# Altium schematic symbol library FUSE.SchLib: 10 symbols
Pins are listed as number, name and electrical type; pins without a type are passive.

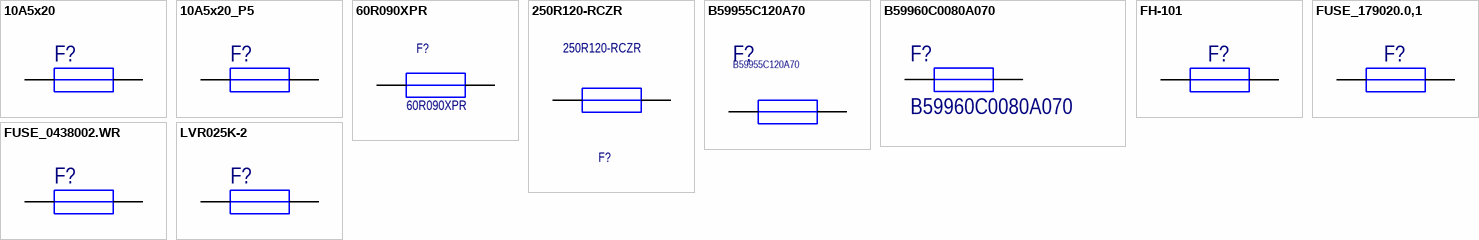
[diagram p0: symbols 10A5x20 to LVR025K-2]

## 10A5x20
designator F?  (value not drawn)
footprint 5x20
pins: 1, 2

## 10A5x20_P5
designator F?  (value not drawn)
footprint 5x20-P5
pins: 1, 2

## 60R090XPR
designator F?
PTC RESETTABLE 60V 900MA RADIAL; Manufacturer: Littelfuse; Max Current Rating: 40A; Resistance: 470mR; Power Dissipation: 990mW; Trip Current: 1.8A; Time to Trip: 7.2s; Approvals: cULus,TUV; Description: PTC RESETBL 60V/250V .120A RAD; Supplier 1: Digi-Key; Supplier Part Number 1: F1992CT-ND; RoHS: Yes; Category: PTC Resettable Fuses; Stock 1: 2008; Pricing 1: 1=0,55000, 5=0,53000, 10=0,51400, 50=0,43240, 100=0,35900, 250=0,32640, 500=0,27744, 1000=0,24480 (USD); Case/Package: Radial; Min Operating Temperature: -40°C; Max Operating Temperature: 85°C; Current Rating: 40A; Package Quantity: 2000; Packaging: Tape and Reel; Termination: Radial; Max Voltage Rating (DC): 60V; Voltage Rating (DC): 60V; Working Voltage: 60V; Hold Current: 900mA; Operating Supply Voltage: 60V; Series: POLY-FUSE®, 60R; Width: 11.7mm; Height: 15.8mm; Lead Pitch: 5.1mm; Thickness: 3.05mm; Size: 3.1mm; REACH SVHC: Unknown; Lead Free: Lead Free; RoHS Compliant: Yes; ComponentLink1URL: https://datasheet.ciiva.com/14119/iewickmann-resettables-rld60-en-14119704.pdf?src-supplier=Distrelec; ComponentLink1Description: https://datasheet.ciiva.com/14119/iewickmann-resettables-rld60-en-14119704.pdf?src-supplier=Distrelec; ComponentLink2URL: https://datasheet.ciiva.com/325/littelfuse-60r-325865.pdf?src-supplier=Digi-Key; ComponentLink2Description: https://datasheet.ciiva.com/325/littelfuse-60r-325865.pdf?src-supplier=Digi-Key; ComponentLink3URL: https://datasheet.ciiva.com/16409/littelfuse-60r-16409086.pdf?src-supplier=Future+Electronics; ComponentLink3Description: https://datasheet.ciiva.com/16409/littelfuse-60r-16409086.pdf?src-supplier=Future+Electronics; ComponentLink4URL: https://datasheet.ciiva.com/325/littelfuse-60r-325864.pdf?src-supplier=Digi-Key; ComponentLink4Description: https://datasheet.ciiva.com/325/littelfuse-60r-325864.pdf?src-supplier=Digi-Key; ComponentLink5URL: https://datasheet.ciiva.com/46430/692303-46430110.pdf?src-supplier=Element14; ComponentLink5Description: https://datasheet.ciiva.com/46430/692303-46430110.pdf?src-supplier=Element14; Manufacturer Part Number: 60R090XPR; Supplier 2: Digi-Key; Supplier Part Number 2: 250R120-RCZRCT-ND; Stock: 1601; Pricing: 1=0,88000, 5=0,84800, 10=0,79300, 50=0,65640, 100=0,54700, 250=0,53332, 500=0,45128 (USD); ComponentLink6URL: https://datasheet.ciiva.com/326/littelfuse-ptc-250r-326823.pdf?src-supplier=Digi-Key; ComponentLink6Description: https://datasheet.ciiva.com/326/littelfuse-ptc-250r-326823.pdf?src-supplier=Digi-Key; ComponentLink7URL: https://datasheet.ciiva.com/326/littelfuse-ptc-250r-326822.pdf?src-supplier=Digi-Key; ComponentLink7Description: https://datasheet.ciiva.com/326/littelfuse-ptc-250r-326822.pdf?src-supplier=Digi-Key
footprint FUSER_LITTELFUSE_60R090XPR (Radial, Disc 11.20mm x 3.10mm)
pins: 1, 2

## 250R120-RCZR
designator F?
PTC RESETBL 60V/250V .120A RAD; Manufacturer: Littelfuse; Max Current Rating: 3A; Resistance: 14R; Hold Current: 120mA; Trip Current: 240mA; Time to Trip: 0.85s; Supplier 1: Digi-Key; Supplier Part Number 1: 250R120-RCZRCT-ND; Manufacturer Part Number: 250R120-RCZR; RoHS: Yes; Category: PTC Resettable Fuses; Stock: 1601; Pricing: 1=0,88000, 5=0,84800, 10=0,79300, 50=0,65640, 100=0,54700, 250=0,53332, 500=0,45128 (USD); Case/Package: Radial; Min Operating Temperature: -40°C; Max Operating Temperature: 85°C; Package Quantity: 1200; Packaging: Tape and Reel; Termination: Radial; Series: POLY-FUSE®, 250R; Lead Free: Lead Free; RoHS Compliant: Yes; ComponentLink1URL: https://datasheet.ciiva.com/326/littelfuse-ptc-250r-326823.pdf?src-supplier=Digi-Key; ComponentLink1Description: https://datasheet.ciiva.com/326/littelfuse-ptc-250r-326823.pdf?src-supplier=Digi-Key; ComponentLink2URL: https://datasheet.ciiva.com/326/littelfuse-ptc-250r-326822.pdf?src-supplier=Digi-Key; ComponentLink2Description: https://datasheet.ciiva.com/326/littelfuse-ptc-250r-326822.pdf?src-supplier=Digi-Key
footprint FUSER_LITTELFUSE_250R120-RC (Rectangle 6.5mm x 4.6mm)
pins: 1, 2

## B59955C120A70
designator F?
PTC RESET FUSE 30V 850MA RADIAL; Manufacturer: TDK EPCOS; Tolerance: 25%; Supplier 1: Digi-Key; Manufacturer Part Number: B59955C120A70; RoHS: Yes; Category: Thermistors; Stock 1: 973; Pricing 1: 1=1,63000, 5=1,54800, 10=1,47100, 50=1,18720, 100=1,00660, 250=0,98080, 500=0,82592, 1000=0,73558, 5000=0,68655 (USD); Mount: Through Hole; Case/Package: Radial; Number of Pins: 2; Contact Plating: Tin; Min Operating Temperature: -40°C; Max Operating Temperature: 125°C; Packaging: Strip; Width: 13.5mm; Height: 17mm; Depth: 3.5mm; Thickness: 3.5mm; Radiation Hardening: No; Lead Free: Lead Free; ComponentLink1URL: https://datasheet.ciiva.com/11822/0900766b80e29389-11822165.pdf?src-supplier=RSComponents; ComponentLink1Description: https://datasheet.ciiva.com/11822/0900766b80e29389-11822165.pdf?src-supplier=RSComponents; ComponentLink2URL: https://datasheet.ciiva.com/20152/500513-da-en-01-20152733.pdf?src-supplier=Rapid+Electronics; ComponentLink2Description: https://datasheet.ciiva.com/20152/500513-da-en-01-20152733.pdf?src-supplier=Rapid+Electronics; ComponentLink3URL: https://datasheet.ciiva.com/29154/500513-da-01-en-kaltleiter-ueberlastschutz-c-955-a120-a-29154337.pdf?src-supplier=Conrad; ComponentLink3Description: https://datasheet.ciiva.com/29154/500513-da-01-en-kaltleiter-ueberlastschutz-c-955-a120-a-29154337.pdf?src-supplier=Conrad; ComponentLink4URL: https://datasheet.ciiva.com/1322/1701974-1322394.pdf?src-supplier=Element14; ComponentLink4Description: https://datasheet.ciiva.com/1322/1701974-1322394.pdf?src-supplier=Element14; ComponentLink5URL: https://datasheet.ciiva.com/14090/b599x5-c935to995-eng-tds-14090954.pdf?src-supplier=Distrelec; ComponentLink5Description: https://datasheet.ciiva.com/14090/b599x5-c935to995-eng-tds-14090954.pdf?src-supplier=Distrelec; ComponentLink6URL: https://datasheet.ciiva.com/26807/getdatasheetpartid-411263-26807978.pdf?src-supplier=Verical; ComponentLink6Description: https://datasheet.ciiva.com/26807/getdatasheetpartid-411263-26807978.pdf?src-supplier=Verical; Supplier Part Number 1: 495-3897-ND
footprint B59955C120A070_13.5X3.5MM (Radial, Disc 13.50mm x 3.50mm)
pins: 1, 2

## B59960C0080A070
designator F?
PTC Thermistors 960-A 80-A 70 10X1 PTC Thermistor; Manufacturer: TDK EPCOS; Resistance: 5.6R; Tolerance: 25%; Max Current Rating: 4.3A; Operating Supply Voltage: 80V; Hold Current: 130mA; Trip Current: 265mA; Manufacturer Part Number: B59960C0080A070; Supplier 1: Digi-Key; RoHS: Yes; Category: PTC Resettable Fuses; Stock 1: 1745; Pricing 1: 1=1,50000, 5=1,45600, 10=1,36300, 50=1,12800, 100=0,94000, 250=0,91648, 500=0,77550, 1000=0,68150, 5000=0,62510 (USD); Mount: Through Hole; Case/Package: Radial; Number of Pins: 2; Contact Plating: Tin; Min Operating Temperature: -40°C; Max Operating Temperature: 85°C; Package Quantity: 500; Packaging: Strip; Termination: Radial; Max Supply Voltage: 80V; Width: 11mm; Height: 14.5mm; Depth: 3.5mm; Thickness: 3.5mm; Radiation Hardening: No; Lead Free: Lead Free; REACH SVHC: No SVHC; RoHS Compliant: Yes; ComponentLink1URL: https://datasheet.ciiva.com/4506/oc-leaded-63v-c-b599-0-78618-4506929.pdf?src-supplier=Mouser; ComponentLink1Description: https://datasheet.ciiva.com/4506/oc-leaded-63v-c-b599-0-78618-4506929.pdf?src-supplier=Mouser; Supplier Part Number 1: 495-75892-ND
footprint B59960C0080A070_11X3.5MM (Radial, Disc 11.00mm x 3.50mm)
pins: 1, 2

## FH-101
designator F?
FUSE HLDR CARTRIDGE 250V 30A PCB; Manufacturer Part Number: FH-101; Manufacturer: Dragon City Industries; TH: 1
footprint FUSE_FH-101 (Fuse holder 5.2x20mm)
pins: 1, 2

## FUSE_179020.0,1
designator F?  (mechanical)
FUSE GLASS 100MA 250VAC 5X20MM; Manufacturer Part Number: 179020.0,1; Manufacturer: Siba
pins: 1, 2

## FUSE_0438002.WR
designator F?  (value not drawn)
FUSE BRD MNT 2A 12VAC 32VDC 0603; Manufacturer: Littelfuse Inc.; Manufacturer Part Number: 0438002.WRGT; SMD: 1
footprint FUSE1608X06M_SMD0603 (Chip Resistor, 2-Leads, Body 1,57x0,85mm, IPC Low Density)
pins: 1, 2

## LVR025K-2
designator F?  (value not drawn)
PTC RESET FUSE 240V 250MA RADIAL; Manufacturer: Littelfuse Inc.; Manufacturer Part Number: LVR025K-2; TH: 1
footprint FUSER_LVR025K
pins: 1, 2